# Altium schematic symbol library Amplifier_Operational.SchLib: 326 symbols (part 3 of 4)
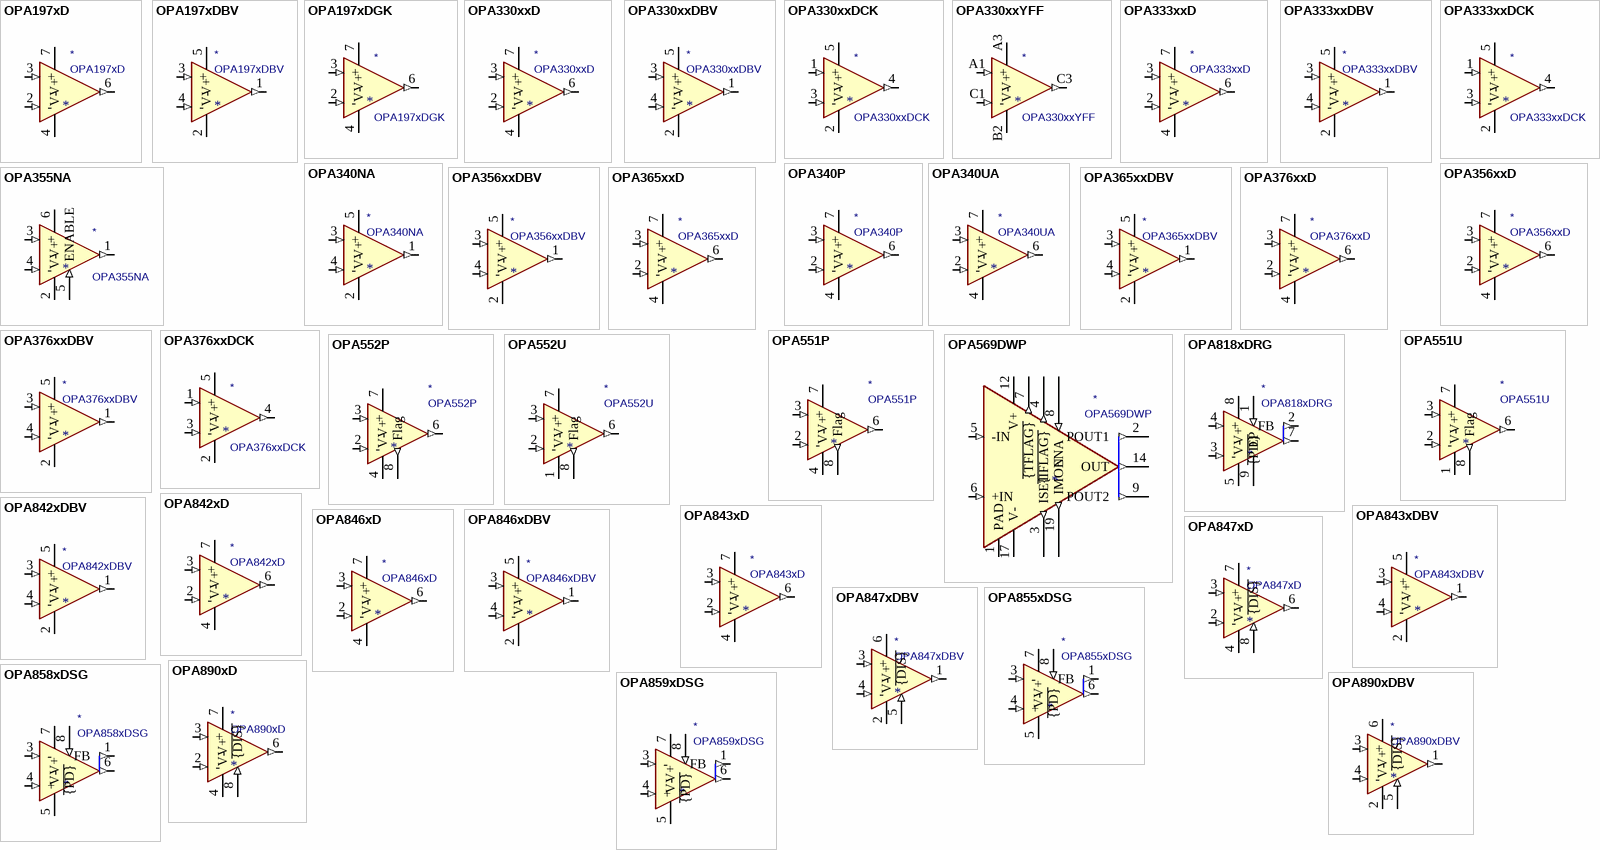
[diagram p20: symbols OPA197xD to OPA890xDBV]

## OPA333xxD
designator *  value OPA333xxD
ki_keywords: single opamp; ki_description: Single 1.8V, microPower, CMOS Operational Amplifiers, Zero-Drift Series, SOIC-8; ki_fp_filters: SOIC*3.9x4.9mm*P1.27mm*; Footprint: Package_SO:SOIC-8_3.9x4.9mm_P1.27mm; Supplier: http://www.ti.com/lit/ds/symlink/opa333.pdf
footprint SOIC-8_3.9x4.9mm_P1.27mm
pins: 1 NC (in) hidden, 2 - (in), 3 + (in), 4 V- (power), 5 NC (in) hidden, 6 (out), 7 V+ (power), 8 NC (in) hidden

## OPA333xxDBV
designator *  value OPA333xxDBV
ki_keywords: single opamp; ki_description: Single 1.8V, microPower, CMOS Operational Amplifiers, Zero-Drift Series, SOT-23-5; ki_fp_filters: SOT?23*; Footprint: Package_TO_SOT_SMD:SOT-23-5; Supplier: http://www.ti.com/lit/ds/symlink/opa333.pdf
footprint SOT-23-5
pins: 1 (out), 2 V- (power), 3 + (in), 4 - (in), 5 V+ (power)

## OPA333xxDCK
designator *  value OPA333xxDCK
ki_keywords: single opamp; ki_description: Single 1.8V, microPower, CMOS Operational Amplifiers, Zero-Drift Series, SC-70-5; ki_fp_filters: SOT?23* *SC*70*; Supplier: http://www.ti.com/lit/ds/symlink/opa333.pdf
pins: 1 + (in), 2 V- (power), 3 - (in), 4 (out), 5 V+ (power)

## OPA340NA
designator *  value OPA340NA
ki_keywords: single opamp; ki_description: Single Single-Supply, Rail-to-Rail Operational Amplifier, MicroAmplifier Series, SOT-23-5; ki_fp_filters: SOT?23*; Footprint: Package_TO_SOT_SMD:SOT-23-5; Supplier: http://www.ti.com/lit/ds/symlink/opa340.pdf
footprint SOT-23-5
pins: 1 (out), 2 V- (power), 3 + (in), 4 - (in), 5 V+ (power)

## OPA340P
designator *  value OPA340P
ki_keywords: single opamp; ki_description: Single Single-Supply, Rail-to-Rail Operational Amplifier, MicroAmplifier Series, DIP-8; ki_fp_filters: DIP*W7.62mm*; Footprint: Package_DIP:DIP-8_W7.62mm; Supplier: http://www.ti.com/lit/ds/symlink/opa340.pdf
footprint DIP-8_W7.62mm
pins: 1 NC (in) hidden, 2 - (in), 3 + (in), 4 V- (power), 5 NC (in) hidden, 6 (out), 7 V+ (power), 8 NC (in) hidden

## OPA340UA
designator *  value OPA340UA
ki_keywords: single opamp; ki_description: Single Single-Supply, Rail-to-Rail Operational Amplifier, MicroAmplifier Series, SOIC-8; ki_fp_filters: SOIC*3.9x4.9mm*P1.27mm*; Footprint: Package_SO:SOIC-8_3.9x4.9mm_P1.27mm; Supplier: http://www.ti.com/lit/ds/symlink/opa340.pdf
footprint SOIC-8_3.9x4.9mm_P1.27mm
pins: 1 NC (in) hidden, 2 - (in), 3 + (in), 4 V- (power), 5 NC (in) hidden, 6 (out), 7 V+ (power), 8 NC (in) hidden

## OPA355NA
designator *  value OPA355NA
ki_keywords: operational amplifier opamp shutdown high-speed; ki_description: 200MHz, CMOS, Operational amplifier, with shutdown, SOT-23-6; ki_fp_filters: SOT?23*; Footprint: Package_TO_SOT_SMD:SOT-23-6; Supplier: http://www.ti.com/lit/ds/symlink/opa355.pdf
footprint SOT-23-6
pins: 1 (out), 2 V- (power), 3 + (in), 4 - (in), 5 ENABLE (in), 6 V+ (power)

## OPA356xxD
designator *  value OPA356xxD
ki_keywords: single opamp; ki_description: Single High Speed CMOS Operational Amplifier, SOIC-8; ki_fp_filters: SOIC*3.9x4.9mm*P1.27mm*; Footprint: Package_SO:SOIC-8_3.9x4.9mm_P1.27mm; Supplier: http://www.ti.com/lit/ds/symlink/opa356.pdf
footprint SOIC-8_3.9x4.9mm_P1.27mm
pins: 1 NC (in) hidden, 2 - (in), 3 + (in), 4 V- (power), 5 NC (in) hidden, 6 (out), 7 V+ (power), 8 NC (in) hidden

## OPA356xxDBV
designator *  value OPA356xxDBV
ki_keywords: single opamp; ki_description: Single High Speed CMOS Operational Amplifier, SOT-23-5; ki_fp_filters: SOT?23*; Footprint: Package_TO_SOT_SMD:SOT-23-5; Supplier: http://www.ti.com/lit/ds/symlink/opa356.pdf
footprint SOT-23-5
pins: 1 (out), 2 V- (power), 3 + (in), 4 - (in), 5 V+ (power)

## OPA365xxD
designator *  value OPA365xxD
ki_keywords: single opamp; ki_description: 50-MHz, Zero-Crossover, Low-Distortion, High CMRR, RRI/O, Single-Supply, SOIC-8; ki_fp_filters: SOIC*3.9x4.9mm*P1.27mm*; Footprint: Package_SO:SOIC-8_3.9x4.9mm_P1.27mm; Supplier: http://www.ti.com/lit/ds/symlink/opa365.pdf
footprint SOIC-8_3.9x4.9mm_P1.27mm
pins: 1 NC (in) hidden, 2 - (in), 3 + (in), 4 V- (power), 5 NC (in) hidden, 6 (out), 7 V+ (power), 8 NC (in) hidden

## OPA365xxDBV
designator *  value OPA365xxDBV
ki_keywords: single opamp; ki_description: 50-MHz, Zero-Crossover, Low-Distortion, High CMRR, RRI/O, Single-Supply, SOT-23-5; ki_fp_filters: SOT?23*; Footprint: Package_TO_SOT_SMD:SOT-23-5; Supplier: https://www.ti.com/lit/ds/symlink/opa365.pdf
footprint SOT-23-5
pins: 1 (out), 2 V- (power), 3 + (in), 4 - (in), 5 V+ (power)

## OPA376xxD
designator *  value OPA376xxD
ki_keywords: single opamp; ki_description: Single Low-Noise, Low Quiescent Current, Precision Operational Amplifier e-trim Series, SOIC-8; ki_fp_filters: SOIC*3.9x4.9mm*P1.27mm*; Footprint: Package_SO:SOIC-8_3.9x4.9mm_P1.27mm; Supplier: http://www.ti.com/lit/ds/symlink/opa376.pdf
footprint SOIC-8_3.9x4.9mm_P1.27mm
pins: 1 NC (in) hidden, 2 - (in), 3 + (in), 4 V- (power), 5 NC (in) hidden, 6 (out), 7 V+ (power), 8 NC (in) hidden

## OPA376xxDBV
designator *  value OPA376xxDBV
ki_keywords: single opamp; ki_description: Single Low-Noise, Low Quiescent Current, Precision Operational Amplifier e-trim Series, SOT-23-5; ki_fp_filters: SOT?23*; Footprint: Package_TO_SOT_SMD:SOT-23-5; Supplier: http://www.ti.com/lit/ds/symlink/opa376.pdf
footprint SOT-23-5
pins: 1 (out), 2 V- (power), 3 + (in), 4 - (in), 5 V+ (power)

## OPA376xxDCK
designator *  value OPA376xxDCK
ki_keywords: single opamp; ki_description: Single Low-Noise, Low Quiescent Current, Precision Operational Amplifier e-trim Series, SC-70-5; ki_fp_filters: SOT?23* *SC*70*; Supplier: http://www.ti.com/lit/ds/symlink/opa376.pdf
pins: 1 + (in), 2 V- (power), 3 - (in), 4 (out), 5 V+ (power)

## OPA551P
designator *  value OPA551P
ki_keywords: single opamp; ki_description: High-Voltage High-Current Operational Amplifier, bandwidth 3MHz, slew-rate 15V/us, DIP-8; ki_fp_filters: DIP*W7.62mm*; Footprint: Package_DIP:DIP-8_W7.62mm; Supplier: http://www.ti.com/lit/ds/symlink/opa551.pdf
footprint DIP-8_W7.62mm
pins: 1 NC (in) hidden, 2 - (in), 3 + (in), 4 V- (power), 5 NC (in) hidden, 6 (out), 7 V+ (power), 8 Flag (out)

## OPA551U
designator *  value OPA551U
ki_keywords: single opamp; ki_description: High-Voltage High-Current Operational Amplifier, bandwidth 3MHz, slew-rate 15V/us, SOIC-8; ki_fp_filters: SOIC*3.9x4.9mm*P1.27mm*; Footprint: Package_SO:SOIC-8_3.9x4.9mm_P1.27mm; Supplier: http://www.ti.com/lit/ds/symlink/opa551.pdf
footprint SOIC-8_3.9x4.9mm_P1.27mm
pins: 1 V- (power), 2 - (in), 3 + (in), 4 V- (power) hidden, 5 V- (power) hidden, 6 (out), 7 V+ (power), 8 Flag (out)

## OPA552P
designator *  value OPA552P
ki_keywords: single opamp; ki_description: High-Voltage High-Current Operational Amplifier, bandwidth 12MHz, slew-rate 24V/us, DIP-8; ki_fp_filters: DIP*W7.62mm*; Footprint: Package_DIP:DIP-8_W7.62mm; Supplier: http://www.ti.com/lit/ds/symlink/opa552.pdf
footprint DIP-8_W7.62mm
pins: 1 NC (in) hidden, 2 - (in), 3 + (in), 4 V- (power), 5 NC (in) hidden, 6 (out), 7 V+ (power), 8 Flag (out)

## OPA552U
designator *  value OPA552U
ki_keywords: single opamp; ki_description: High-Voltage High-Current Operational Amplifier, bandwidth 12MHz, slew-rate 24V/us, SOIC-8; ki_fp_filters: SOIC*3.9x4.9mm*P1.27mm*; Footprint: Package_SO:SOIC-8_3.9x4.9mm_P1.27mm; Supplier: http://www.ti.com/lit/ds/symlink/opa552.pdf
footprint SOIC-8_3.9x4.9mm_P1.27mm
pins: 1 V- (power), 2 - (in), 3 + (in), 4 V- (power) hidden, 5 V- (power) hidden, 6 (out), 7 V+ (power), 8 Flag (out)

## OPA569DWP
designator *  value OPA569DWP
ki_keywords: opamp single high current; ki_description: Rail-to-Rail I/O, 2A, Power Amplifier, SO-20; ki_fp_filters: SO*1EP*7.52x12.825mm*P1.27mm*; Footprint: Package_SO:SO-20-1EP_7.52x12.825mm_P1.27mm_EP6.045x12.09mm_Mask3.56x4.47mm; Supplier: http://www.ti.com/lit/ds/symlink/opa569.pdf
footprint SO-20-1EP_7.52x12.825mm_P1.27mm_EP6.045x12.09mm_Mask3.56x4.47mm
pins: 1 PAD (power), 2 POUT1 (out), 3 ISET (out), 4 ~{{IFLAG}} (out), 5 -IN (in), 6 +IN (in), 7 ~{{TFLAG}} (out), 8 ENA (in), 9 POUT2 (out), 10 PAD hidden, 11 PAD hidden, 12 V+ (power), 13 V+ hidden, 14 OUT (out), 15 OUT hidden, 16 NC (in) hidden, 17 V- (power), 18 V- hidden, 19 IMON (out), 20 PAD hidden, 21 PAD hidden

## OPA818xDRG
designator *  value OPA818xDRG
ki_keywords: opamp VFA; ki_description: 2.7 GHz, High-Voltage, FET-Input, Low Noise, Operational Amplifier, WSON-8; ki_fp_filters: WSON*1EP*3x3mm*EP1.45x2.4mm*; Footprint: Package_SON:WSON-8-1EP_3x3mm_P0.5mm_EP1.45x2.4mm; Supplier: https://www.ti.com/lit/ds/symlink/opa818.pdf
footprint WSON-8-1EP_3x3mm_P0.5mm_EP1.45x2.4mm
pins: 1 ~{{PD}} (in), 2 FB (out), 3 - (in), 4 + (in), 5 V- (power), 6 NC (in) hidden, 7 (out), 8 V+ (power), 9 EP

## OPA842xD
designator *  value OPA842xD
ki_keywords: single opamp; ki_description: 200MHz, Low Distortion, Unity-Gain Stable, Voltage Feedback Operational Amplifier, SOIC-8; ki_fp_filters: SOIC*3.9x4.9mm*P1.27mm*; Footprint: Package_SO:SOIC-8_3.9x4.9mm_P1.27mm; Supplier: http://www.ti.com/lit/ds/symlink/opa842.pdf
footprint SOIC-8_3.9x4.9mm_P1.27mm
pins: 1 NC (in) hidden, 2 - (in), 3 + (in), 4 V- (power), 5 NC (in) hidden, 6 (out), 7 V+ (power), 8 NC (in) hidden

## OPA842xDBV
designator *  value OPA842xDBV
ki_keywords: single opamp; ki_description: 200MHz, Low Distortion, Unity-Gain Stable, Voltage Feedback Operational Amplifier, SOT23-5; ki_fp_filters: SOT?23*; Footprint: Package_TO_SOT_SMD:SOT-23-5; Supplier: http://www.ti.com/lit/ds/symlink/opa842.pdf
footprint SOT-23-5
pins: 1 (out), 2 V- (power), 3 + (in), 4 - (in), 5 V+ (power)

## OPA843xD
designator *  value OPA843xD
ki_keywords: single opamp low distortion; ki_description: 800MHz, Wideband, Low Distortion, Medium Gain, Voltage-Feedback Operational Amplifier, SOIC-8; ki_fp_filters: SOIC*3.9x4.9mm*P1.27mm*; Footprint: Package_SO:SOIC-8_3.9x4.9mm_P1.27mm; Supplier: http://www.ti.com/lit/ds/symlink/opa843.pdf
footprint SOIC-8_3.9x4.9mm_P1.27mm
pins: 1 NC (in) hidden, 2 - (in), 3 + (in), 4 V- (power), 5 NC (in) hidden, 6 (out), 7 V+ (power), 8 NC (in) hidden

## OPA843xDBV
designator *  value OPA843xDBV
ki_keywords: single opamp low distortion; ki_description: 800MHz, Wideband, Low Distortion, Medium Gain, Voltage-Feedback Operational Amplifier, SOT-23-5; ki_fp_filters: SOT?23*; Footprint: Package_TO_SOT_SMD:SOT-23-5; Supplier: http://www.ti.com/lit/ds/symlink/opa843.pdf
footprint SOT-23-5
pins: 1 (out), 2 V- (power), 3 + (in), 4 - (in), 5 V+ (power)

## OPA846xD
designator *  value OPA846xD
ki_keywords: single opamp; ki_description: 1750MHz, Wideband, Low-Noise, Voltage Feedback Operational Amplifier, SOIC-8; ki_fp_filters: SOIC*3.9x4.9mm*P1.27mm*; Footprint: Package_SO:SOIC-8_3.9x4.9mm_P1.27mm; Supplier: http://www.ti.com/lit/ds/symlink/opa846.pdf
footprint SOIC-8_3.9x4.9mm_P1.27mm
pins: 1 NC (in) hidden, 2 - (in), 3 + (in), 4 V- (power), 5 NC (in) hidden, 6 (out), 7 V+ (power), 8 NC (in) hidden

## OPA846xDBV
designator *  value OPA846xDBV
ki_keywords: single opamp; ki_description: 1750MHz, Wideband, Low-Noise, Voltage Feedback Operational Amplifier, SOT23-5; ki_fp_filters: SOT?23*; Footprint: Package_TO_SOT_SMD:SOT-23-5; Supplier: http://www.ti.com/lit/ds/symlink/opa846.pdf
footprint SOT-23-5
pins: 1 (out), 2 V- (power), 3 + (in), 4 - (in), 5 V+ (power)

## OPA847xD
designator *  value OPA847xD
ki_keywords: single opamp wideband low-power; ki_description: Single Low-Power, 3.9GHz, Wideband, Ultra-Low Noise, Voltage-Feedback Operational Amplifier with Disable, SO-8; ki_fp_filters: SOIC*3.9x4.9mm*P1.27mm*; Footprint: Package_SO:SOIC-8_3.9x4.9mm_P1.27mm; Supplier: http://www.ti.com/lit/ds/symlink/opa847.pdf
footprint SOIC-8_3.9x4.9mm_P1.27mm
pins: 1 NC (in) hidden, 2 - (in), 3 + (in), 4 V- (power), 5 NC (in) hidden, 6 (out), 7 V+ (power), 8 ~{{DIS}} (in)

## OPA847xDBV
designator *  value OPA847xDBV
ki_keywords: single opamp wideband low-power; ki_description: Single Low-Power, 3.9GHz, Wideband, Ultra-Low Noise, Voltage-Feedback Operational Amplifier with Disable, SOT-23-6; ki_fp_filters: SOT?23*; Footprint: Package_TO_SOT_SMD:SOT-23-6; Supplier: http://www.ti.com/lit/ds/symlink/opa847.pdf
footprint SOT-23-6
pins: 1 (out), 2 V- (power), 3 + (in), 4 - (in), 5 ~{{DIS}} (in), 6 V+ (power)

## OPA855xDSG
designator *  value OPA855xDSG
ki_keywords: opamp VFA; ki_description: 8-GHz Gain Bandwidth Product, Gain of 7-V/V Stable, Bipolar Input Amplifier, WSON-8; ki_fp_filters: WSON*1EP*2x2mm*P0.5mm*; Footprint: Package_SON:WSON-8-1EP_2x2mm_P0.5mm_EP0.9x1.6mm; Supplier: http://www.ti.com/lit/ds/symlink/opa855.pdf
footprint WSON-8-1EP_2x2mm_P0.5mm_EP0.9x1.6mm
pins: 1 FB (out), 2 NC (in) hidden, 3 - (in), 4 + (in), 5 V- (power), 6 (out), 7 V+ (power), 8 ~{{PD}} (in), 9 V- hidden

## OPA858xDSG
designator *  value OPA858xDSG
ki_keywords: opamp VFA; ki_description: 5.5-GHz Gain Bandwidth Product, Gain of 7 V/V Stable, FET Input Amplifier, WSON-8; ki_fp_filters: WSON*1EP*2x2mm*P0.5mm*; Footprint: Package_SON:WSON-8-1EP_2x2mm_P0.5mm_EP0.9x1.6mm; Supplier: http://www.ti.com/lit/ds/symlink/opa858.pdf
footprint WSON-8-1EP_2x2mm_P0.5mm_EP0.9x1.6mm
pins: 1 FB (out), 2 NC (in) hidden, 3 - (in), 4 + (in), 5 V- (power), 6 (out), 7 V+ (power), 8 ~{{PD}} (in), 9 V- hidden

## OPA859xDSG
designator *  value OPA859xDSG
ki_keywords: opamp VFA; ki_description: 1.8 GHz Unity-Gain Bandwidth FET Input Amplifier, WSON-8; ki_fp_filters: WSON*1EP*2x2mm*P0.5mm*; Footprint: Package_SON:WSON-8-1EP_2x2mm_P0.5mm_EP0.9x1.6mm; Supplier: http://www.ti.com/lit/ds/symlink/opa859.pdf
footprint WSON-8-1EP_2x2mm_P0.5mm_EP0.9x1.6mm
pins: 1 FB (out), 2 NC (in) hidden, 3 - (in), 4 + (in), 5 V- (power), 6 (out), 7 V+ (power), 8 ~{{PD}} (in), 9 V- hidden

## OPA890xD
designator *  value OPA890xD
ki_keywords: single opamp wideband low-power; ki_description: Single Low-Power, Wideband, Voltage-Feedback Operational Amplifier with Disable, SO-8; ki_fp_filters: SOIC*3.9x4.9mm*P1.27mm*; Footprint: Package_SO:SOIC-8_3.9x4.9mm_P1.27mm; Supplier: https://www.ti.com/lit/ds/symlink/opa890.pdf
footprint SOIC-8_3.9x4.9mm_P1.27mm
pins: 1 NC (in) hidden, 2 - (in), 3 + (in), 4 V- (power), 5 NC (in) hidden, 6 (out), 7 V+ (power), 8 ~{{DIS}} (in)

## OPA890xDBV
designator *  value OPA890xDBV
ki_keywords: single opamp wideband low-power; ki_description: Single Low-Power, Wideband, Voltage-Feedback Operational Amplifier with Disable, SOT-23-6; ki_fp_filters: SOT?23*; Footprint: Package_TO_SOT_SMD:SOT-23-6; Supplier: https://www.ti.com/lit/ds/symlink/opa890.pdf
footprint SOT-23-6
pins: 1 (out), 2 V- (power), 3 + (in), 4 - (in), 5 ~{{DIS}} (in), 6 V+ (power)

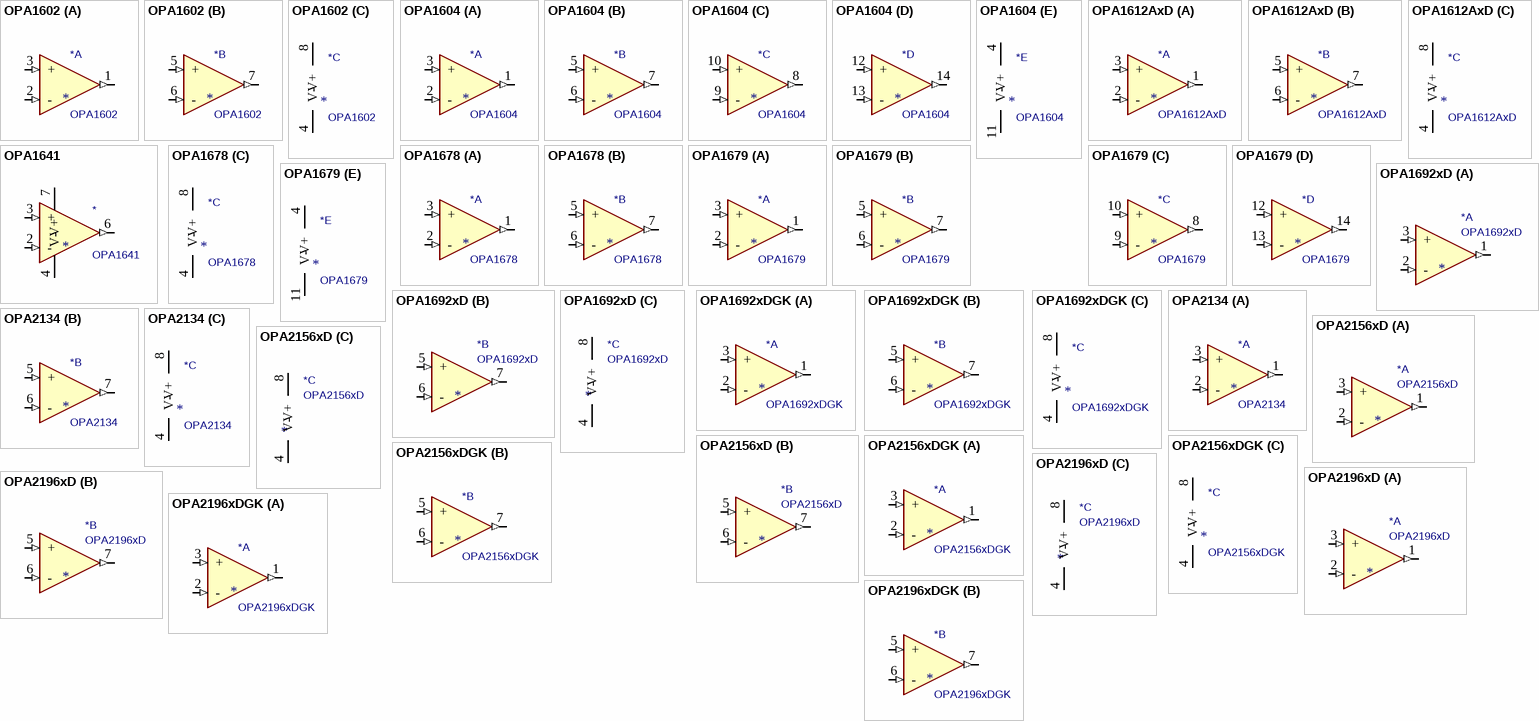
[diagram p12: symbols OPA1602 to OPA2196xDGK]

## OPA1602
designator *  value OPA1602
ki_keywords: dual opamp; ki_description: Dual SoundPlus High Performance, Bipolar-Input Audio Operational Amplifiers, SOIC-8/MSOP-8; ki_fp_filters: SOIC*3.9x4.9mm*P1.27mm* DIP*W7.62mm* TO*99* OnSemi*Micro8* TSSOP*3x3mm*P0.65mm* TSSOP*4.4x3mm*P0.65mm* MSOP*3x3mm*P0.65mm* SSOP*3.9x4.9mm*P0.635mm* LFCSP*2x2mm*P0.5mm* *SIP* SOIC*5.3x6.2mm*P1.27mm*; Supplier: http://www.ti.com/lit/ds/symlink/opa1604.pdf
part A pins: 1 (out), 2 - (in), 3 + (in)
part B pins: 5 + (in), 6 - (in), 7 (out)
part C pins: 4 V- (power), 8 V+ (power)

## OPA1604
designator *  value OPA1604
ki_keywords: quad opamp; ki_description: Quad SoundPlus High Performance, Bipolar-Input Audio Operational Amplifiers, SOIC-14/TSSOP-14; ki_fp_filters: SOIC*3.9x8.7mm*P1.27mm* DIP*W7.62mm* TSSOP*4.4x5mm*P0.65mm* SSOP*5.3x6.2mm*P0.65mm* MSOP*3x3mm*P0.5mm*; Supplier: http://www.ti.com/lit/ds/symlink/opa1604.pdf
part A pins: 1 (out), 2 - (in), 3 + (in)
part B pins: 5 + (in), 6 - (in), 7 (out)
part C pins: 8 (out), 9 - (in), 10 + (in)
part D pins: 12 + (in), 13 - (in), 14 (out)
part E pins: 4 V+ (power), 11 V- (power)

## OPA1612AxD
designator *  value OPA1612AxD
ki_keywords: dual opamp; ki_description: Dual SoundPlus High Performance, Bipolar-Input Audio Operational Amplifiers, SOIC-8; ki_fp_filters: SOIC*3.9x4.9mm*P1.27mm* DIP*W7.62mm* TO*99* OnSemi*Micro8* TSSOP*3x3mm*P0.65mm* TSSOP*4.4x3mm*P0.65mm* MSOP*3x3mm*P0.65mm* SSOP*3.9x4.9mm*P0.635mm* LFCSP*2x2mm*P0.5mm* *SIP* SOIC*5.3x6.2mm*P1.27mm*; Supplier: http://www.ti.com/lit/ds/symlink/opa1612.pdf
part A pins: 1 (out), 2 - (in), 3 + (in)
part B pins: 5 + (in), 6 - (in), 7 (out)
part C pins: 4 V- (power), 8 V+ (power)

## OPA1641
designator *  value OPA1641
ki_keywords: single opamp; ki_description: JFET input, ultralow distortion, low-noise operational amplifier, SOIC-8/VSSOP-8; ki_fp_filters: SOIC*3.9x4.9mm*P1.27mm* VSSOP*3.0x3.0mm*P0.65mm*; Supplier: http://www.ti.com/lit/ds/symlink/opa1641.pdf
pins: 1 NC (in) hidden, 2 - (in), 3 + (in), 4 V- (power), 5 NC (in) hidden, 6 (out), 7 V+ (power), 8 NC (in) hidden

## OPA1678
designator *  value OPA1678
ki_keywords: dual opamp; ki_description: Low-Distortion Audio Operational Amplifiers, SOIC-8/VSSOP-8; ki_fp_filters: SOIC*3.9x4.9mm*P1.27mm* DIP*W7.62mm* TO*99* OnSemi*Micro8* TSSOP*3x3mm*P0.65mm* TSSOP*4.4x3mm*P0.65mm* MSOP*3x3mm*P0.65mm* SSOP*3.9x4.9mm*P0.635mm* LFCSP*2x2mm*P0.5mm* *SIP* SOIC*5.3x6.2mm*P1.27mm*; Supplier: http://www.ti.com/lit/ds/symlink/opa1678.pdf
part A pins: 1 (out), 2 - (in), 3 + (in)
part B pins: 5 + (in), 6 - (in), 7 (out)
part C pins: 4 V- (power), 8 V+ (power)

## OPA1679
designator *  value OPA1679
ki_keywords: quad opamp; ki_description: Low-Distortion Audio Operational Amplifiers, SOIC-14/TSSOP-14; ki_fp_filters: SOIC*3.9x8.7mm*P1.27mm* DIP*W7.62mm* TSSOP*4.4x5mm*P0.65mm* SSOP*5.3x6.2mm*P0.65mm* MSOP*3x3mm*P0.5mm*; Supplier: http://www.ti.com/lit/ds/symlink/opa1678.pdf
part A pins: 1 (out), 2 - (in), 3 + (in)
part B pins: 5 + (in), 6 - (in), 7 (out)
part C pins: 8 (out), 9 - (in), 10 + (in)
part D pins: 12 + (in), 13 - (in), 14 (out)
part E pins: 4 V+ (power), 11 V- (power)

## OPA1692xD
designator *  value OPA1692xD
ki_keywords: VFA opamp; ki_description: Dual SoundPlus Low Power, Low Noise & Low Distortion Audio Operational Amplifiers, SOIC-8; ki_fp_filters: SOIC*3.9x4.9mm*P1.27mm*; Footprint: Package_SO:SOIC-8_3.9x4.9mm_P1.27mm; Supplier: https://www.ti.com/lit/ds/symlink/opa1692.pdf
footprint SOIC-8_3.9x4.9mm_P1.27mm
part A pins: 1 (out), 2 - (in), 3 + (in)
part B pins: 5 + (in), 6 - (in), 7 (out)
part C pins: 4 V- (power), 8 V+ (power)

## OPA1692xDGK
designator *  value OPA1692xDGK
ki_keywords: VFA opamp; ki_description: Dual SoundPlus Low Power, Low Noise & Low Distortion Audio Operational Amplifiers, VSSOP-8; ki_fp_filters: VSSOP*3.0x3.0mm*P0.65mm*; Footprint: Package_SO:VSSOP-8_3.0x3.0mm_P0.65mm; Supplier: https://www.ti.com/lit/ds/symlink/opa1692.pdf
footprint VSSOP-8_3.0x3.0mm_P0.65mm
part A pins: 1 (out), 2 - (in), 3 + (in)
part B pins: 5 + (in), 6 - (in), 7 (out)
part C pins: 4 V- (power), 8 V+ (power)

## OPA2134
designator *  value OPA2134
ki_keywords: dual opamp; ki_description: Dual SoundPlus High Performance Audio Operational Amplifiers, DIP-8/SOIC-8; ki_fp_filters: SOIC*3.9x4.9mm*P1.27mm* DIP*W7.62mm* TO*99* OnSemi*Micro8* TSSOP*3x3mm*P0.65mm* TSSOP*4.4x3mm*P0.65mm* MSOP*3x3mm*P0.65mm* SSOP*3.9x4.9mm*P0.635mm* LFCSP*2x2mm*P0.5mm* *SIP* SOIC*5.3x6.2mm*P1.27mm*; Supplier: http://www.ti.com/lit/ds/symlink/opa134.pdf
part A pins: 1 (out), 2 - (in), 3 + (in)
part B pins: 5 + (in), 6 - (in), 7 (out)
part C pins: 4 V- (power), 8 V+ (power)

## OPA2156xD
designator *  value OPA2156xD
ki_keywords: dual opamp low-noise r2r; ki_description: Dual 36V, Ultra Low Noise, Rail-to-Rail Input/Output, Low Offset Voltage, Operational Amplifier, SOIC-8; ki_fp_filters: SOIC*3.9x4.9mm*P1.27mm*; Footprint: Package_SO:SOIC-8_3.9x4.9mm_P1.27mm; Supplier: https://www.ti.com/lit/ds/symlink/opa2156.pdf
footprint SOIC-8_3.9x4.9mm_P1.27mm
part A pins: 1 (out), 2 - (in), 3 + (in)
part B pins: 5 + (in), 6 - (in), 7 (out)
part C pins: 4 V- (power), 8 V+ (power)

## OPA2156xDGK
designator *  value OPA2156xDGK
ki_keywords: dual opamp low-noise r2r; ki_description: Dual 36V, Ultra Low Noise, Rail-to-Rail Input/Output, Low Offset Voltage, Operational Amplifier, VSSOP-8; ki_fp_filters: VSSOP*3.0x3.0mm*P0.65mm*; Footprint: Package_SO:VSSOP-8_3.0x3.0mm_P0.65mm; Supplier: http://www.ti.com/lit/ds/symlink/opa2156.pdf
footprint VSSOP-8_3.0x3.0mm_P0.65mm
part A pins: 1 (out), 2 - (in), 3 + (in)
part B pins: 5 + (in), 6 - (in), 7 (out)
part C pins: 4 V- (power), 8 V+ (power)

## OPA2196xD
designator *  value OPA2196xD
ki_keywords: dual opamp low-power; ki_description: Dual, Low-Power, Low Offset Voltage, Rail-to-Rail Operational Amplifier, SOIC-8; ki_fp_filters: SOIC*3.9x4.9mm*P1.27mm*; Footprint: Package_SO:SOIC-8_3.9x4.9mm_P1.27mm; Supplier: http://www.ti.com/lit/ds/symlink/opa4196.pdf
footprint SOIC-8_3.9x4.9mm_P1.27mm
part A pins: 1 (out), 2 - (in), 3 + (in)
part B pins: 5 + (in), 6 - (in), 7 (out)
part C pins: 4 V- (power), 8 V+ (power)

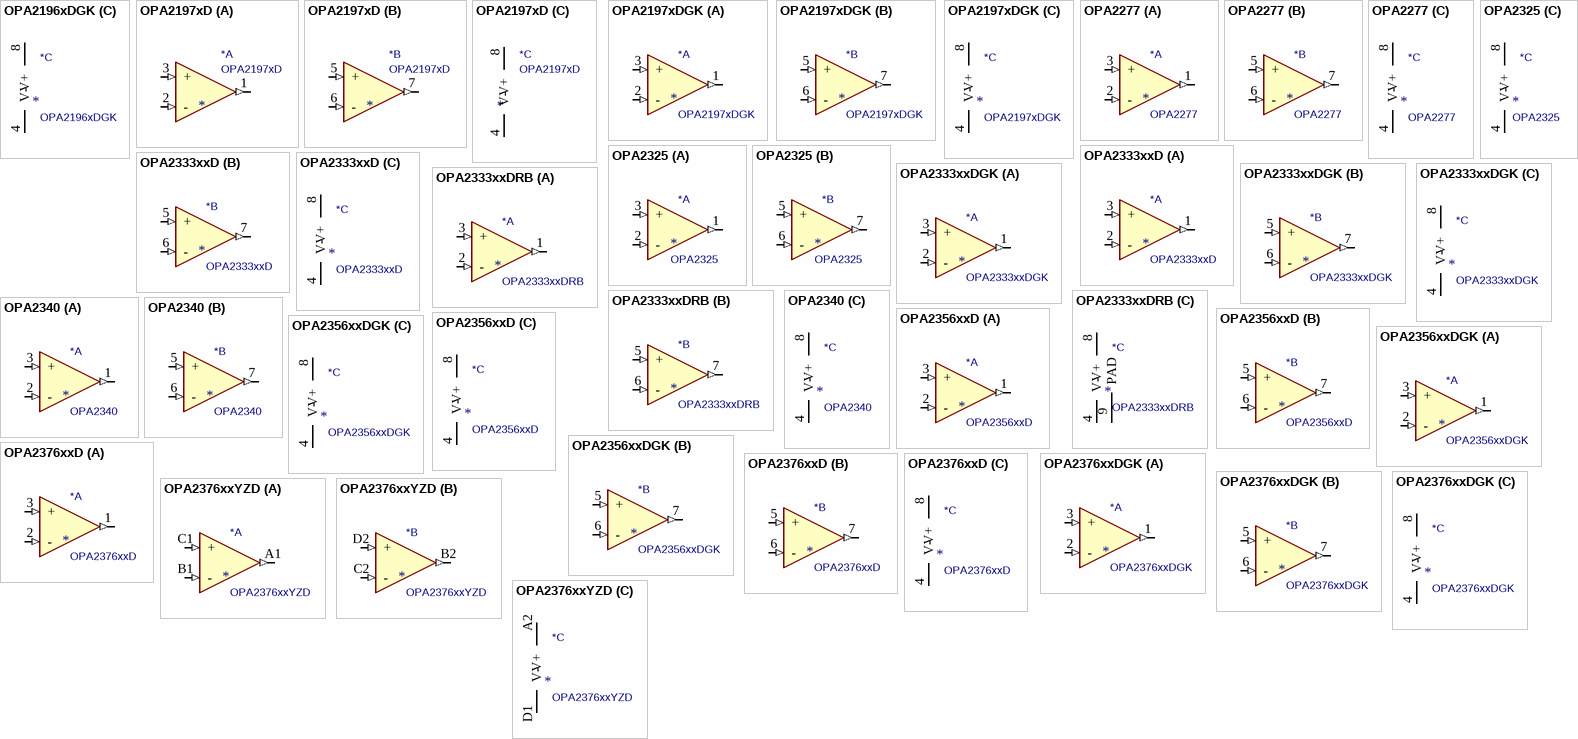
[diagram p13: symbols OPA2196xDGK to OPA2376xxYZD]

## OPA2196xDGK
designator *  value OPA2196xDGK
ki_keywords: dual opamp rtor; ki_description: Dual, Low-Power, Low Offset Voltage, Rail-to-Rail Operational Amplifier, VSSOP-8; ki_fp_filters: VSSOP*3.0x3.0mm*P0.65mm*; Footprint: Package_SO:VSSOP-8_3.0x3.0mm_P0.65mm; Supplier: http://www.ti.com/lit/ds/symlink/opa4196.pdf
footprint VSSOP-8_3.0x3.0mm_P0.65mm
part A pins: 1 (out), 2 - (in), 3 + (in)
part B pins: 5 + (in), 6 - (in), 7 (out)
part C pins: 4 V- (power), 8 V+ (power)

## OPA2197xD
designator *  value OPA2197xD
ki_keywords: dual opamp rtor; ki_description: Dual 36V, Precision, Rail-to-Rail Input/Output, Low Offset Voltage, Operational Amplifier, SOIC-8; ki_fp_filters: SOIC*3.9x4.9mm*P1.27mm*; Footprint: Package_SO:SOIC-8_3.9x4.9mm_P1.27mm; Supplier: http://www.ti.com/lit/ds/symlink/opa2197.pdf
footprint SOIC-8_3.9x4.9mm_P1.27mm
part A pins: 1 (out), 2 - (in), 3 + (in)
part B pins: 5 + (in), 6 - (in), 7 (out)
part C pins: 4 V- (power), 8 V+ (power)

## OPA2197xDGK
designator *  value OPA2197xDGK
ki_keywords: dual opamp rtor; ki_description: Dual 36V, Precision, Rail-to-Rail Input/Output, Low Offset Voltage, Operational Amplifier, VSSOP-8; ki_fp_filters: VSSOP*3.0x3.0mm*P0.65mm*; Footprint: Package_SO:VSSOP-8_3.0x3.0mm_P0.65mm; Supplier: http://www.ti.com/lit/ds/symlink/opa2197.pdf
footprint VSSOP-8_3.0x3.0mm_P0.65mm
part A pins: 1 (out), 2 - (in), 3 + (in)
part B pins: 5 + (in), 6 - (in), 7 (out)
part C pins: 4 V- (power), 8 V+ (power)

## OPA2277
designator *  value OPA2277
ki_keywords: dual opamp; ki_description: Dual High Precision Operational Amplifiers, DIP-8/SOIC-8; ki_fp_filters: SOIC*3.9x4.9mm*P1.27mm* DIP*W7.62mm* TO*99* OnSemi*Micro8* TSSOP*3x3mm*P0.65mm* TSSOP*4.4x3mm*P0.65mm* MSOP*3x3mm*P0.65mm* SSOP*3.9x4.9mm*P0.635mm* LFCSP*2x2mm*P0.5mm* *SIP* SOIC*5.3x6.2mm*P1.27mm*; Supplier: https://www.ti.com/lit/ds/symlink/opa2277.pdf
part A pins: 1 (out), 2 - (in), 3 + (in)
part B pins: 5 + (in), 6 - (in), 7 (out)
part C pins: 4 V- (power), 8 V+ (power)

## OPA2325
designator *  value OPA2325
ki_keywords: dual opamp; ki_description: Precision, 10-MHz, Low-Noise, Low-Power, RRIO, CMOS Operational Amplifier, SOIC-8; ki_fp_filters: SOIC*3.9x4.9mm*P1.27mm*; Footprint: Package_SO:SOIC-8_3.9x4.9mm_P1.27mm; Supplier: http://www.ti.com/lit/ds/symlink/opa2325.pdf
footprint SOIC-8_3.9x4.9mm_P1.27mm
part A pins: 1 (out), 2 - (in), 3 + (in)
part B pins: 5 + (in), 6 - (in), 7 (out)
part C pins: 4 V- (power), 8 V+ (power)

## OPA2333xxD
designator *  value OPA2333xxD
ki_keywords: dual opamp; ki_description: Dual 1.8V, microPower, CMOS Operational Amplifiers, Zero-Drift Series, SOIC-8; ki_fp_filters: SOIC*3.9x4.9mm*P1.27mm* DIP*W7.62mm* TO*99* OnSemi*Micro8* TSSOP*3x3mm*P0.65mm* TSSOP*4.4x3mm*P0.65mm* MSOP*3x3mm*P0.65mm* SSOP*3.9x4.9mm*P0.635mm* LFCSP*2x2mm*P0.5mm* *SIP* SOIC*5.3x6.2mm*P1.27mm*; Supplier: http://www.ti.com/lit/ds/symlink/opa333.pdf
part A pins: 1 (out), 2 - (in), 3 + (in)
part B pins: 5 + (in), 6 - (in), 7 (out)
part C pins: 4 V- (power), 8 V+ (power)

## OPA2333xxDGK
designator *  value OPA2333xxDGK
ki_keywords: dual opamp; ki_description: Dual 1.8V, microPower, CMOS Operational Amplifiers, Zero-Drift Series, VSSOP-8; ki_fp_filters: SOIC*3.9x4.9mm*P1.27mm* DIP*W7.62mm* TO*99* OnSemi*Micro8* TSSOP*3x3mm*P0.65mm* TSSOP*4.4x3mm*P0.65mm* MSOP*3x3mm*P0.65mm* SSOP*3.9x4.9mm*P0.635mm* LFCSP*2x2mm*P0.5mm* *SIP* SOIC*5.3x6.2mm*P1.27mm*; Supplier: http://www.ti.com/lit/ds/symlink/opa333.pdf
part A pins: 1 (out), 2 - (in), 3 + (in)
part B pins: 5 + (in), 6 - (in), 7 (out)
part C pins: 4 V- (power), 8 V+ (power)

## OPA2333xxDRB
designator *  value OPA2333xxDRB
ki_keywords: dual opamp; ki_description: Dual 1.8V, microPower, CMOS Operational Amplifiers, Zero-Drift Series, SON-8; ki_fp_filters: Texas*PVSON*; Footprint: Package_SON:Texas_S-PVSON-N8; Supplier: http://www.ti.com/lit/ds/symlink/opa333.pdf
footprint Texas_S-PVSON-N8
part A pins: 1 (out), 2 - (in), 3 + (in)
part B pins: 5 + (in), 6 - (in), 7 (out)
part C pins: 4 V- (power), 8 V+ (power), 9 PAD (power)

## OPA2340
designator *  value OPA2340
ki_keywords: dual opamp; ki_description: Dual Single-Supply, Rail-to-Rail Operational Amplifiers, MicroAmplifier Series, DIP-8/SOIC-8/SSOP-8; ki_fp_filters: SOIC*3.9x4.9mm*P1.27mm* DIP*W7.62mm* TO*99* OnSemi*Micro8* TSSOP*3x3mm*P0.65mm* TSSOP*4.4x3mm*P0.65mm* MSOP*3x3mm*P0.65mm* SSOP*3.9x4.9mm*P0.635mm* LFCSP*2x2mm*P0.5mm* *SIP* SOIC*5.3x6.2mm*P1.27mm*; Supplier: http://www.ti.com/lit/ds/symlink/opa4340.pdf
part A pins: 1 (out), 2 - (in), 3 + (in)
part B pins: 5 + (in), 6 - (in), 7 (out)
part C pins: 4 V- (power), 8 V+ (power)

## OPA2356xxD
designator *  value OPA2356xxD
ki_keywords: dual opamp; ki_description: Dual High Speed CMOS Operational Amplifiers, SOIC-8; ki_fp_filters: SOIC*3.9x4.9mm*P1.27mm* DIP*W7.62mm* TO*99* OnSemi*Micro8* TSSOP*3x3mm*P0.65mm* TSSOP*4.4x3mm*P0.65mm* MSOP*3x3mm*P0.65mm* SSOP*3.9x4.9mm*P0.635mm* LFCSP*2x2mm*P0.5mm* *SIP* SOIC*5.3x6.2mm*P1.27mm*; Supplier: http://www.ti.com/lit/ds/symlink/opa2356.pdf
part A pins: 1 (out), 2 - (in), 3 + (in)
part B pins: 5 + (in), 6 - (in), 7 (out)
part C pins: 4 V- (power), 8 V+ (power)

## OPA2356xxDGK
designator *  value OPA2356xxDGK
ki_keywords: dual opamp; ki_description: Dual High Speed CMOS Operational Amplifiers, VSSOP-8; ki_fp_filters: SOIC*3.9x4.9mm*P1.27mm* DIP*W7.62mm* TO*99* OnSemi*Micro8* TSSOP*3x3mm*P0.65mm* TSSOP*4.4x3mm*P0.65mm* MSOP*3x3mm*P0.65mm* SSOP*3.9x4.9mm*P0.635mm* LFCSP*2x2mm*P0.5mm* *SIP* SOIC*5.3x6.2mm*P1.27mm*; Supplier: http://www.ti.com/lit/ds/symlink/opa2356.pdf
part A pins: 1 (out), 2 - (in), 3 + (in)
part B pins: 5 + (in), 6 - (in), 7 (out)
part C pins: 4 V- (power), 8 V+ (power)

## OPA2376xxD
designator *  value OPA2376xxD
ki_keywords: dual opamp; ki_description: Dual Low-Noise, Low Quiescent Current, Precision Operational Amplifier e-trim Series, SOIC-8; ki_fp_filters: SOIC*3.9x4.9mm*P1.27mm* DIP*W7.62mm* TO*99* OnSemi*Micro8* TSSOP*3x3mm*P0.65mm* TSSOP*4.4x3mm*P0.65mm* MSOP*3x3mm*P0.65mm* SSOP*3.9x4.9mm*P0.635mm* LFCSP*2x2mm*P0.5mm* *SIP* SOIC*5.3x6.2mm*P1.27mm*; Supplier: http://www.ti.com/lit/ds/symlink/opa376.pdf
part A pins: 1 (out), 2 - (in), 3 + (in)
part B pins: 5 + (in), 6 - (in), 7 (out)
part C pins: 4 V- (power), 8 V+ (power)

## OPA2376xxDGK
designator *  value OPA2376xxDGK
ki_keywords: dual opamp; ki_description: Dual Low-Noise, Low Quiescent Current, Precision Operational Amplifier e-trim Series, VSSOP-8; ki_fp_filters: SOIC*3.9x4.9mm*P1.27mm* DIP*W7.62mm* TO*99* OnSemi*Micro8* TSSOP*3x3mm*P0.65mm* TSSOP*4.4x3mm*P0.65mm* MSOP*3x3mm*P0.65mm* SSOP*3.9x4.9mm*P0.635mm* LFCSP*2x2mm*P0.5mm* *SIP* SOIC*5.3x6.2mm*P1.27mm*; Supplier: http://www.ti.com/lit/ds/symlink/opa376.pdf
part A pins: 1 (out), 2 - (in), 3 + (in)
part B pins: 5 + (in), 6 - (in), 7 (out)
part C pins: 4 V- (power), 8 V+ (power)

## OPA2376xxYZD
designator *  value OPA2376xxYZD
ki_keywords: dual opamp; ki_description: Dual Low-Noise, Low Quiescent Current, Precision Operational Amplifier e-trim Series, DSBGA-8; ki_fp_filters: Texas*DSBGA*0.9x1.9mm*0.5mm*; Footprint: Package_BGA:Texas_DSBGA-8_0.9x1.9mm_Layout2x4_P0.5mm; Supplier: http://www.ti.com/lit/ds/symlink/opa376.pdf
footprint Texas_DSBGA-8_0.9x1.9mm_Layout2x4_P0.5mm
part A pins: A1 (out), B1 - (in), C1 + (in)
part B pins: B2 (out), C2 - (in), D2 + (in)
part C pins: A2 V+ (power), D1 V- (power)

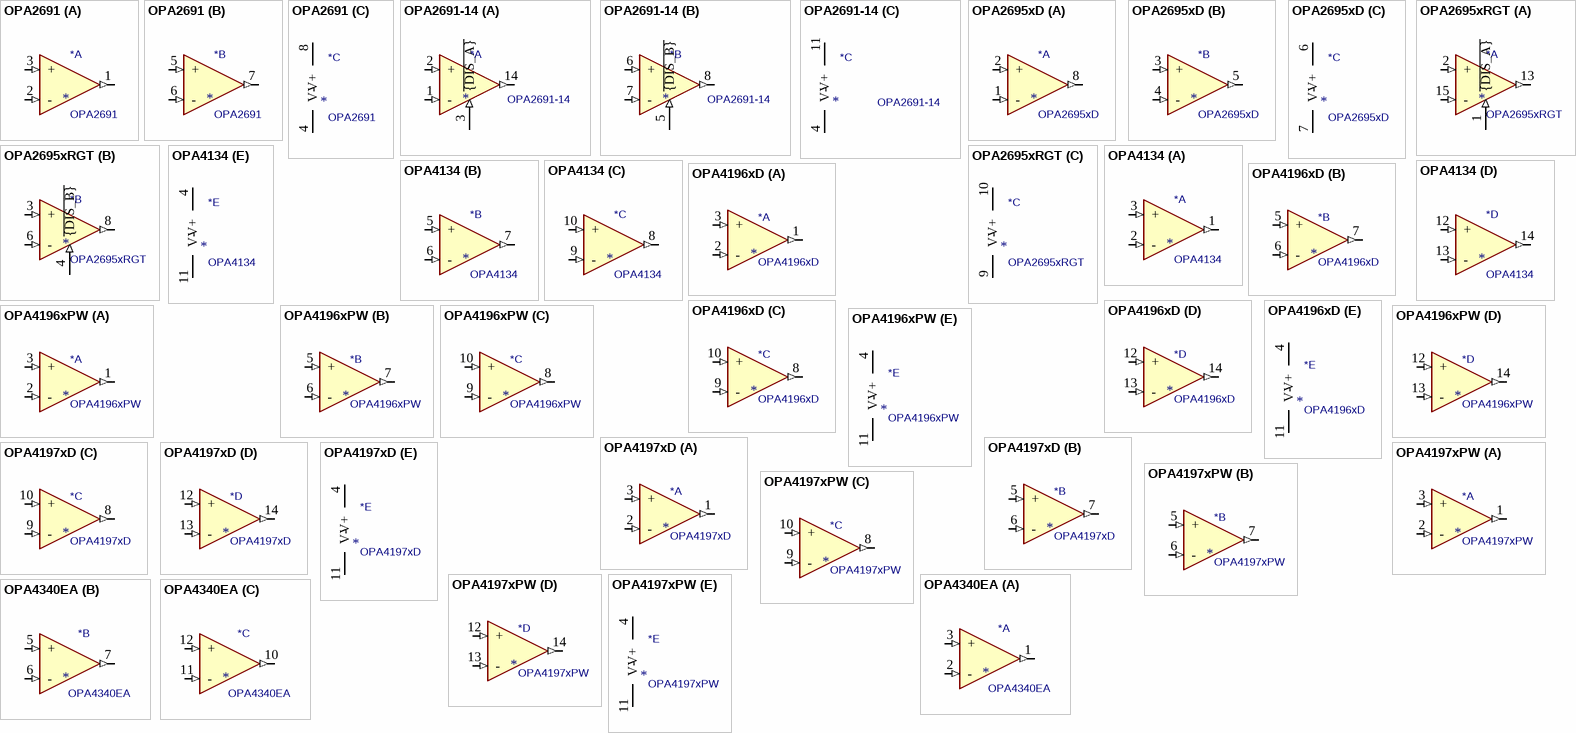
[diagram p14: symbols OPA2691 to OPA4340EA]

## OPA2691
designator *  value OPA2691
ki_keywords: dual current feedback opamp; ki_description: Dual Wideband, Current-Feedback Operational Amplifier, SOIC-8; ki_fp_filters: SOIC*3.9x4.9mm*P1.27mm* DIP*W7.62mm* TO*99* OnSemi*Micro8* TSSOP*3x3mm*P0.65mm* TSSOP*4.4x3mm*P0.65mm* MSOP*3x3mm*P0.65mm* SSOP*3.9x4.9mm*P0.635mm* LFCSP*2x2mm*P0.5mm* *SIP* SOIC*5.3x6.2mm*P1.27mm*; Supplier: http://www.ti.com/lit/ds/sbos224d/sbos224d.pdf
part A pins: 1 (out), 2 - (in), 3 + (in)
part B pins: 5 + (in), 6 - (in), 7 (out)
part C pins: 4 V- (power), 8 V+ (power)

## OPA2691-14
designator *  value OPA2691-14
ki_keywords: dual current feedback opamp; ki_description: Dual Wideband, Current-Feedback Operational Amplifier With Disable, SOIC-14; ki_fp_filters: SOIC*3.9x8.7mm*P1.27mm*; Footprint: Package_SO:SOIC-14_3.9x8.7mm_P1.27mm; Supplier: http://www.ti.com/lit/ds/sbos224d/sbos224d.pdf
footprint SOIC-14_3.9x8.7mm_P1.27mm
part A pins: 1 - (in), 2 + (in), 3 ~{{DIS_A}} (in), 9 NC (in) hidden, 10 NC (in) hidden, 14 (out)
part B pins: 5 ~{{DIS_B}} (in), 6 + (in), 7 - (in), 8 (out), 12 NC (in) hidden, 13 NC (in) hidden
part C pins: 4 V- (power), 11 V+ (power)

## OPA2695xD
designator *  value OPA2695xD
ki_keywords: dual opamp; ki_description: Dual, Ultra-Wideband, Current-Feedback Operational Amplifier with Disable, SOIC-8; ki_fp_filters: SOIC*3.9x4.9mm*P1.27mm*; Footprint: Package_SO:SOIC-8_3.9x4.9mm_P1.27mm; Supplier: http://www.ti.com/lit/ds/sbos354a/sbos354a.pdf
footprint SOIC-8_3.9x4.9mm_P1.27mm
part A pins: 1 - (in), 2 + (in), 8 (out)
part B pins: 3 + (in), 4 - (in), 5 (out)
part C pins: 6 V+ (power), 7 V- (power)

## OPA2695xRGT
designator *  value OPA2695xRGT
ki_keywords: dual opamp; ki_description: Dual, Ultra-Wideband, Current-Feedback Operational Amplifier with Disable, QFN-16; ki_fp_filters: VQFN*1EP*3x3mm*P0.5mm*; Footprint: Package_DFN_QFN:VQFN-16-1EP_3x3mm_P0.5mm_EP1.45x1.45mm_ThermalVias; Supplier: http://www.ti.com/lit/ds/sbos354a/sbos354a.pdf
footprint VQFN-16-1EP_3x3mm_P0.5mm_EP1.45x1.45mm_ThermalVias
part A pins: 1 ~{{DIS_A}} (in), 2 + (in), 5 NC (in) hidden, 13 (out), 14 NC (in) hidden, 15 - (in)
part B pins: 3 + (in), 4 ~{{DIS_B}} (in), 6 - (in), 7 NC (in) hidden, 8 (out), 16 NC (in) hidden
part C pins: 9 V- (power), 10 V+ (power), 11 V+ hidden, 12 V- hidden

## OPA4134
designator *  value OPA4134
ki_keywords: quad opamp; ki_description: Quad SoundPlus High Performance Audio Operational Amplifiers, SOIC-14; ki_fp_filters: SOIC*3.9x8.7mm*P1.27mm* DIP*W7.62mm* TSSOP*4.4x5mm*P0.65mm* SSOP*5.3x6.2mm*P0.65mm* MSOP*3x3mm*P0.5mm*; Supplier: http://www.ti.com/lit/ds/symlink/opa134.pdf
part A pins: 1 (out), 2 - (in), 3 + (in)
part B pins: 5 + (in), 6 - (in), 7 (out)
part C pins: 8 (out), 9 - (in), 10 + (in)
part D pins: 12 + (in), 13 - (in), 14 (out)
part E pins: 4 V+ (power), 11 V- (power)

## OPA4196xD
designator *  value OPA4196xD
ki_keywords: quad opamp rtor; ki_description: Quad, Low-Power, Low Offset Voltage, Rail-to-Rail Operational Amplifier, SOIC-14; ki_fp_filters: SOIC*3.9x8.7mm*P1.27mm*; Footprint: Package_SO:SOIC-14_3.9x8.7mm_P1.27mm; Supplier: http://www.ti.com/lit/ds/symlink/opa4196.pdf
footprint SOIC-14_3.9x8.7mm_P1.27mm
part A pins: 1 (out), 2 - (in), 3 + (in)
part B pins: 5 + (in), 6 - (in), 7 (out)
part C pins: 8 (out), 9 - (in), 10 + (in)
part D pins: 12 + (in), 13 - (in), 14 (out)
part E pins: 4 V+ (power), 11 V- (power)

## OPA4196xPW
designator *  value OPA4196xPW
ki_keywords: quad opamp rtor; ki_description: Quad, Low-Power, Low Offset Voltage, Rail-to-Rail Operational Amplifier, TSSOP-14; ki_fp_filters: TSSOP*4.4x5mm*P0.65mm*; Footprint: Package_SO:TSSOP-14_4.4x5mm_P0.65mm; Supplier: http://www.ti.com/lit/ds/symlink/opa4196.pdf
footprint TSSOP-14_4.4x5mm_P0.65mm
part A pins: 1 (out), 2 - (in), 3 + (in)
part B pins: 5 + (in), 6 - (in), 7 (out)
part C pins: 8 (out), 9 - (in), 10 + (in)
part D pins: 12 + (in), 13 - (in), 14 (out)
part E pins: 4 V+ (power), 11 V- (power)

## OPA4197xD
designator *  value OPA4197xD
ki_keywords: quad opamp rtor; ki_description: Quad 36V, Precision, Rail-to-Rail Input/Output, Low Offset Voltage, Operational Amplifier, SOIC-14; ki_fp_filters: SOIC*3.9x8.7mm*P1.27mm*; Footprint: Package_SO:SOIC-14_3.9x8.7mm_P1.27mm; Supplier: http://www.ti.com/lit/ds/symlink/opa4197.pdf
footprint SOIC-14_3.9x8.7mm_P1.27mm
part A pins: 1 (out), 2 - (in), 3 + (in)
part B pins: 5 + (in), 6 - (in), 7 (out)
part C pins: 8 (out), 9 - (in), 10 + (in)
part D pins: 12 + (in), 13 - (in), 14 (out)
part E pins: 4 V+ (power), 11 V- (power)

## OPA4197xPW
designator *  value OPA4197xPW
ki_keywords: quad opamp rtor; ki_description: Quad 36V, Precision, Rail-to-Rail Input/Output, Low Offset Voltage, Operational Amplifier, TSSOP-14; ki_fp_filters: TSSOP*4.4x5mm*P0.65mm*; Footprint: Package_SO:TSSOP-14_4.4x5mm_P0.65mm; Supplier: http://www.ti.com/lit/ds/symlink/opa4197.pdf
footprint TSSOP-14_4.4x5mm_P0.65mm
part A pins: 1 (out), 2 - (in), 3 + (in)
part B pins: 5 + (in), 6 - (in), 7 (out)
part C pins: 8 (out), 9 - (in), 10 + (in)
part D pins: 12 + (in), 13 - (in), 14 (out)
part E pins: 4 V+ (power), 11 V- (power)

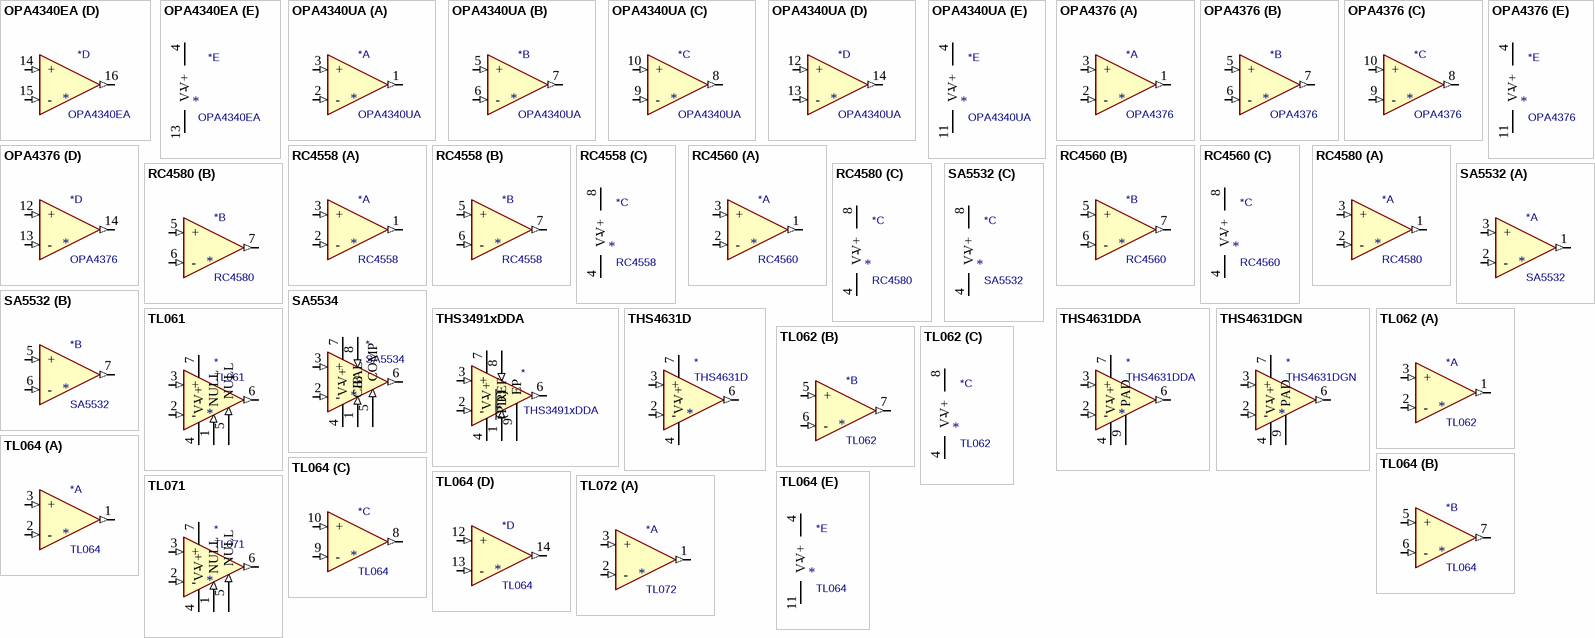
[diagram p15: symbols OPA4340EA to TL072]

## OPA4340EA
designator *  value OPA4340EA
ki_keywords: quad opamp; ki_description: Quad Single-Supply, Rail-to-Rail Operational Amplifier, MicroAmplifier Series, SSOP-16; ki_fp_filters: SSOP*3.9x4.9mm*P0.635mm* SOIC*3.9x9.9mm*P1.27mm* QSOP*3.9x4.9mm*P0.635mm*; Supplier: http://www.ti.com/lit/ds/symlink/opa340.pdf
part A pins: 1 (out), 2 - (in), 3 + (in), 8 NC (in) hidden, 9 NC (in) hidden
part B pins: 5 + (in), 6 - (in), 7 (out)
part C pins: 10 (out), 11 - (in), 12 + (in)
part D pins: 14 + (in), 15 - (in), 16 (out)
part E pins: 4 V+ (power), 13 V- (power)

## OPA4340UA
designator *  value OPA4340UA
ki_keywords: quad opamp; ki_description: Quad Single-Supply, Rail-to-Rail Operational Amplifier, MicroAmplifier Series, SOIC-14; ki_fp_filters: SOIC*3.9x8.7mm*P1.27mm* DIP*W7.62mm* TSSOP*4.4x5mm*P0.65mm* SSOP*5.3x6.2mm*P0.65mm* MSOP*3x3mm*P0.5mm*; Supplier: http://www.ti.com/lit/ds/symlink/opa340.pdf
part A pins: 1 (out), 2 - (in), 3 + (in)
part B pins: 5 + (in), 6 - (in), 7 (out)
part C pins: 8 (out), 9 - (in), 10 + (in)
part D pins: 12 + (in), 13 - (in), 14 (out)
part E pins: 4 V+ (power), 11 V- (power)

## OPA4376
designator *  value OPA4376
ki_keywords: quad opamp; ki_description: Quad Low-Noise, Low Quiescent Current, Precision Operational Amplifier e-trim Series, SC-70-5; ki_fp_filters: SOIC*3.9x8.7mm*P1.27mm* DIP*W7.62mm* TSSOP*4.4x5mm*P0.65mm* SSOP*5.3x6.2mm*P0.65mm* MSOP*3x3mm*P0.5mm*; Supplier: http://www.ti.com/lit/ds/symlink/opa376.pdf
part A pins: 1 (out), 2 - (in), 3 + (in)
part B pins: 5 + (in), 6 - (in), 7 (out)
part C pins: 8 (out), 9 - (in), 10 + (in)
part D pins: 12 + (in), 13 - (in), 14 (out)
part E pins: 4 V+ (power), 11 V- (power)

## RC4558
designator *  value RC4558
ki_keywords: dual opamp; ki_description: Dual General Purpose, Operational Amplifier, DIP-8/SOIC-8/SSOP-8; ki_fp_filters: SOIC*3.9x4.9mm*P1.27mm* DIP*W7.62mm* TO*99* OnSemi*Micro8* TSSOP*3x3mm*P0.65mm* TSSOP*4.4x3mm*P0.65mm* MSOP*3x3mm*P0.65mm* SSOP*3.9x4.9mm*P0.635mm* LFCSP*2x2mm*P0.5mm* *SIP* SOIC*5.3x6.2mm*P1.27mm*; Supplier: http://www.ti.com/lit/ds/symlink/rc4558.pdf
part A pins: 1 (out), 2 - (in), 3 + (in)
part B pins: 5 + (in), 6 - (in), 7 (out)
part C pins: 4 V- (power), 8 V+ (power)

## RC4560
designator *  value RC4560
ki_keywords: dual opamp; ki_description: Dual Audio Operational Amplifier, DIP-8/SOIC-8/SSOP-8; ki_fp_filters: SOIC*3.9x4.9mm*P1.27mm* DIP*W7.62mm* TO*99* OnSemi*Micro8* TSSOP*3x3mm*P0.65mm* TSSOP*4.4x3mm*P0.65mm* MSOP*3x3mm*P0.65mm* SSOP*3.9x4.9mm*P0.635mm* LFCSP*2x2mm*P0.5mm* *SIP* SOIC*5.3x6.2mm*P1.27mm*; Supplier: http://www.ti.com/lit/ds/symlink/rc4560.pdf
part A pins: 1 (out), 2 - (in), 3 + (in)
part B pins: 5 + (in), 6 - (in), 7 (out)
part C pins: 4 V- (power), 8 V+ (power)

## RC4580
designator *  value RC4580
ki_keywords: dual opamp; ki_description: Dual Audio Operational Amplifier, SOIC-8/SSOP-8; ki_fp_filters: SOIC*3.9x4.9mm*P1.27mm* DIP*W7.62mm* TO*99* OnSemi*Micro8* TSSOP*3x3mm*P0.65mm* TSSOP*4.4x3mm*P0.65mm* MSOP*3x3mm*P0.65mm* SSOP*3.9x4.9mm*P0.635mm* LFCSP*2x2mm*P0.5mm* *SIP* SOIC*5.3x6.2mm*P1.27mm*; Supplier: http://www.ti.com/lit/ds/symlink/rc4580.pdf
part A pins: 1 (out), 2 - (in), 3 + (in)
part B pins: 5 + (in), 6 - (in), 7 (out)
part C pins: 4 V- (power), 8 V+ (power)

## SA5532
designator *  value SA5532
ki_keywords: dual opamp; ki_description: Dual Low-Noise Operational Amplifiers, DIP-8/SOIC-8; ki_fp_filters: SOIC*3.9x4.9mm*P1.27mm* DIP*W7.62mm* TO*99* OnSemi*Micro8* TSSOP*3x3mm*P0.65mm* TSSOP*4.4x3mm*P0.65mm* MSOP*3x3mm*P0.65mm* SSOP*3.9x4.9mm*P0.635mm* LFCSP*2x2mm*P0.5mm* *SIP* SOIC*5.3x6.2mm*P1.27mm*; Supplier: http://www.ti.com/lit/ds/symlink/ne5532.pdf
part A pins: 1 (out), 2 - (in), 3 + (in)
part B pins: 5 + (in), 6 - (in), 7 (out)
part C pins: 4 V- (power), 8 V+ (power)

## SA5534
designator *  value SA5534
ki_keywords: single opamp; ki_description: Single Low-Noise Operational Amplifiers, DIP-8/SOIC-8; ki_fp_filters: DIP*W7.62mm* SOIC*3.9x4.9mm*P1.27mm* TO?5*; Supplier: http://www.ti.com/lit/ds/symlink/ne5534.pdf
pins: 1 BAL (in), 2 - (in), 3 + (in), 4 V- (power), 5 COMP (in), 6 (out), 7 V+ (power), 8 C/B (in)

## THS3491xDDA
designator *  value THS3491xDDA
ki_keywords: opamp single current feedback wideband; ki_description: 900-MHz, 500-mA High-Power Output Current Feedback Operational Amplifier, SOIC-8; ki_fp_filters: Texas*R*PDSO*G8*EP*; Footprint: Package_SO:Texas_R-PDSO-G8_EP2.95x4.9mm_Mask2.4x3.1mm; Supplier: http://www.ti.com/lit/ds/symlink/ths3491.pdf
footprint Texas_R-PDSO-G8_EP2.95x4.9mm_Mask2.4x3.1mm
pins: 1 REF (in), 2 - (in), 3 + (in), 4 V- (power), 5 NC (in) hidden, 6 (out), 7 V+ (power), 8 ~{{PD}} (in), 9 EP

## THS4631D
designator *  value THS4631D
ki_keywords: single opamp; ki_description: Single High-voltage, High Slew Rate, Wideband, FET-input Operational Amplifier, SOIC-8; ki_fp_filters: SOIC*3.9x4.9mm*P1.27mm*; Footprint: Package_SO:SOIC-8_3.9x4.9mm_P1.27mm; Supplier: www.ti.com/lit/ds/symlink/ths4631.pdf
footprint SOIC-8_3.9x4.9mm_P1.27mm
pins: 1 NC (in) hidden, 2 - (in), 3 + (in), 4 V- (power), 5 NC (in) hidden, 6 (out), 7 V+ (power), 8 NC (in) hidden

## THS4631DDA
designator *  value THS4631DDA
ki_keywords: single opamp; ki_description: Single High-voltage, High Slew Rate, Wideband, FET-input Operational Amplifier, SOIC-8; ki_fp_filters: SOIC*1EP*3.9x4.9mm*P1.27mm* MSOP*1EP*3x3mm*P0.65mm*; Supplier: www.ti.com/lit/ds/symlink/ths4631.pdf
pins: 1 NC (in) hidden, 2 - (in), 3 + (in), 4 V- (power), 5 NC (in) hidden, 6 (out), 7 V+ (power), 8 NC (in) hidden, 9 PAD

## THS4631DGN
designator *  value THS4631DGN
ki_keywords: single opamp; ki_description: Single High-voltage, High Slew Rate, Wideband, FET-input Operational Amplifier, MSOP-8; ki_fp_filters: SOIC*1EP*3.9x4.9mm*P1.27mm* MSOP*1EP*3x3mm*P0.65mm*; Supplier: www.ti.com/lit/ds/symlink/ths4631.pdf
pins: 1 NC (in) hidden, 2 - (in), 3 + (in), 4 V- (power), 5 NC (in) hidden, 6 (out), 7 V+ (power), 8 NC (in) hidden, 9 PAD

## TL061
designator *  value TL061
ki_keywords: single opamp; ki_description: Single Low-Power JFET-Input Operational Amplifiers, DIP-8/SOIC-8; ki_fp_filters: SOIC*3.9x4.9mm*P1.27mm* DIP*W7.62mm* TSSOP*3x3mm*P0.65mm*; Supplier: http://www.ti.com/lit/ds/symlink/tl061.pdf
pins: 1 NULL (in), 2 - (in), 3 + (in), 4 V- (power), 5 NULL (in), 6 (out), 7 V+ (power), 8 NC (in) hidden

## TL062
designator *  value TL062
ki_keywords: dual opamp; ki_description: Dual Low-Power JFET-Input Operational Amplifiers, DIP-8/SOIC-8/SSOP-8; ki_fp_filters: SOIC*3.9x4.9mm*P1.27mm* DIP*W7.62mm* TO*99* OnSemi*Micro8* TSSOP*3x3mm*P0.65mm* TSSOP*4.4x3mm*P0.65mm* MSOP*3x3mm*P0.65mm* SSOP*3.9x4.9mm*P0.635mm* LFCSP*2x2mm*P0.5mm* *SIP* SOIC*5.3x6.2mm*P1.27mm*; Supplier: http://www.ti.com/lit/ds/symlink/tl061.pdf
part A pins: 1 (out), 2 - (in), 3 + (in)
part B pins: 5 + (in), 6 - (in), 7 (out)
part C pins: 4 V- (power), 8 V+ (power)

## TL064
designator *  value TL064
ki_keywords: quad opamp; ki_description: Quad Low-Power JFET-Input Operational Amplifiers, DIP-14/SOIC-14/SSOP-14; ki_fp_filters: SOIC*3.9x8.7mm*P1.27mm* DIP*W7.62mm* TSSOP*4.4x5mm*P0.65mm* SSOP*5.3x6.2mm*P0.65mm* MSOP*3x3mm*P0.5mm*; Supplier: http://www.ti.com/lit/ds/symlink/tl061.pdf
part A pins: 1 (out), 2 - (in), 3 + (in)
part B pins: 5 + (in), 6 - (in), 7 (out)
part C pins: 8 (out), 9 - (in), 10 + (in)
part D pins: 12 + (in), 13 - (in), 14 (out)
part E pins: 4 V+ (power), 11 V- (power)

## TL071
designator *  value TL071
ki_keywords: singel opamp; ki_description: Single Low-Noise JFET-Input Operational Amplifiers, DIP-8/SOIC-8; ki_fp_filters: SOIC*3.9x4.9mm*P1.27mm* DIP*W7.62mm* TSSOP*3x3mm*P0.65mm*; Supplier: http://www.ti.com/lit/ds/symlink/tl071.pdf
pins: 1 NULL (in), 2 - (in), 3 + (in), 4 V- (power), 5 NULL (in), 6 (out), 7 V+ (power), 8 NC (in) hidden

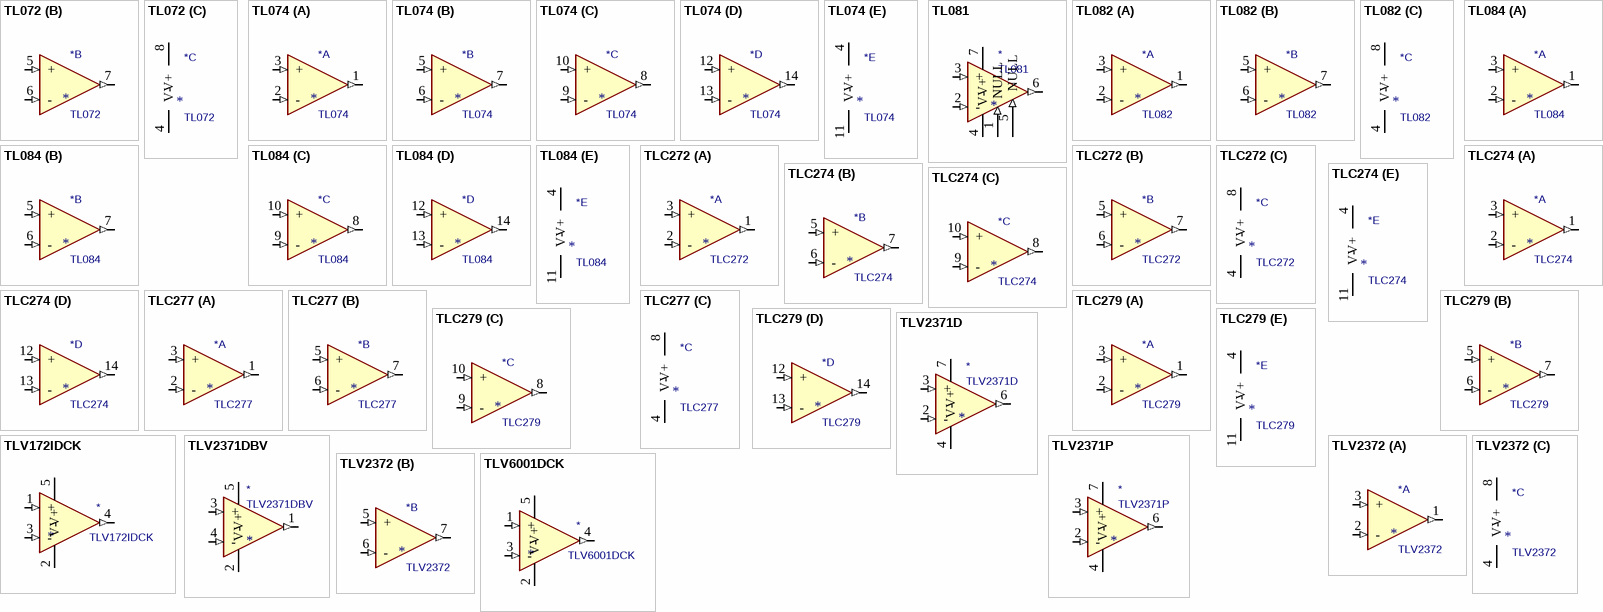
[diagram p16: symbols TL072 to TLV6001DCK]

## TL072
designator *  value TL072
ki_keywords: dual opamp; ki_description: Dual Low-Noise JFET-Input Operational Amplifiers, DIP-8/SOIC-8; ki_fp_filters: SOIC*3.9x4.9mm*P1.27mm* DIP*W7.62mm* TO*99* OnSemi*Micro8* TSSOP*3x3mm*P0.65mm* TSSOP*4.4x3mm*P0.65mm* MSOP*3x3mm*P0.65mm* SSOP*3.9x4.9mm*P0.635mm* LFCSP*2x2mm*P0.5mm* *SIP* SOIC*5.3x6.2mm*P1.27mm*; Supplier: http://www.ti.com/lit/ds/symlink/tl071.pdf
part A pins: 1 (out), 2 - (in), 3 + (in)
part B pins: 5 + (in), 6 - (in), 7 (out)
part C pins: 4 V- (power), 8 V+ (power)

## TL074
designator *  value TL074
ki_keywords: quad opamp; ki_description: Quad Low-Noise JFET-Input Operational Amplifiers, DIP-14/SOIC-14; ki_fp_filters: SOIC*3.9x8.7mm*P1.27mm* DIP*W7.62mm* TSSOP*4.4x5mm*P0.65mm* SSOP*5.3x6.2mm*P0.65mm* MSOP*3x3mm*P0.5mm*; Supplier: http://www.ti.com/lit/ds/symlink/tl071.pdf
part A pins: 1 (out), 2 - (in), 3 + (in)
part B pins: 5 + (in), 6 - (in), 7 (out)
part C pins: 8 (out), 9 - (in), 10 + (in)
part D pins: 12 + (in), 13 - (in), 14 (out)
part E pins: 4 V+ (power), 11 V- (power)

## TL081
designator *  value TL081
ki_keywords: single opamp; ki_description: Single JFET-Input Operational Amplifiers, DIP-8/SOIC-8; ki_fp_filters: SOIC*3.9x4.9mm*P1.27mm* DIP*W7.62mm* TSSOP*3x3mm*P0.65mm*; Supplier: http://www.ti.com/lit/ds/symlink/tl081.pdf
pins: 1 NULL (in), 2 - (in), 3 + (in), 4 V- (power), 5 NULL (in), 6 (out), 7 V+ (power), 8 NC (in) hidden

## TL082
designator *  value TL082
ki_keywords: dual opamp; ki_description: Dual JFET-Input Operational Amplifiers, DIP-8/SOIC-8/SSOP-8; ki_fp_filters: SOIC*3.9x4.9mm*P1.27mm* DIP*W7.62mm* TO*99* OnSemi*Micro8* TSSOP*3x3mm*P0.65mm* TSSOP*4.4x3mm*P0.65mm* MSOP*3x3mm*P0.65mm* SSOP*3.9x4.9mm*P0.635mm* LFCSP*2x2mm*P0.5mm* *SIP* SOIC*5.3x6.2mm*P1.27mm*; Supplier: http://www.ti.com/lit/ds/symlink/tl081.pdf
part A pins: 1 (out), 2 - (in), 3 + (in)
part B pins: 5 + (in), 6 - (in), 7 (out)
part C pins: 4 V- (power), 8 V+ (power)

## TL084
designator *  value TL084
ki_keywords: quad opamp; ki_description: Quad JFET-Input Operational Amplifiers, DIP-14/SOIC-14/SSOP-14; ki_fp_filters: SOIC*3.9x8.7mm*P1.27mm* DIP*W7.62mm* TSSOP*4.4x5mm*P0.65mm* SSOP*5.3x6.2mm*P0.65mm* MSOP*3x3mm*P0.5mm*; Supplier: http://www.ti.com/lit/ds/symlink/tl081.pdf
part A pins: 1 (out), 2 - (in), 3 + (in)
part B pins: 5 + (in), 6 - (in), 7 (out)
part C pins: 8 (out), 9 - (in), 10 + (in)
part D pins: 12 + (in), 13 - (in), 14 (out)
part E pins: 4 V+ (power), 11 V- (power)

## TLC272
designator *  value TLC272
ki_keywords: dual opamp; ki_description: Dual LinCMOS Precision Dual Operational Amplifiers, DIP-8/SOIC-8/SSOP-8; ki_fp_filters: SOIC*3.9x4.9mm*P1.27mm* DIP*W7.62mm* TO*99* OnSemi*Micro8* TSSOP*3x3mm*P0.65mm* TSSOP*4.4x3mm*P0.65mm* MSOP*3x3mm*P0.65mm* SSOP*3.9x4.9mm*P0.635mm* LFCSP*2x2mm*P0.5mm* *SIP* SOIC*5.3x6.2mm*P1.27mm*; Supplier: http://www.ti.com/lit/ds/symlink/tlc272.pdf
part A pins: 1 (out), 2 - (in), 3 + (in)
part B pins: 5 + (in), 6 - (in), 7 (out)
part C pins: 4 V- (power), 8 V+ (power)

## TLC274
designator *  value TLC274
ki_keywords: quad opamp; ki_description: Quad LinCMOS Precision Quad Operational Amplifiers, DIP-14/SOIC-14/SSOP-14; ki_fp_filters: SOIC*3.9x8.7mm*P1.27mm* DIP*W7.62mm* TSSOP*4.4x5mm*P0.65mm* SSOP*5.3x6.2mm*P0.65mm* MSOP*3x3mm*P0.5mm*; Supplier: http://www.ti.com/lit/ds/symlink/tlc274.pdf
part A pins: 1 (out), 2 - (in), 3 + (in)
part B pins: 5 + (in), 6 - (in), 7 (out)
part C pins: 8 (out), 9 - (in), 10 + (in)
part D pins: 12 + (in), 13 - (in), 14 (out)
part E pins: 4 V+ (power), 11 V- (power)

## TLC277
designator *  value TLC277
ki_keywords: dual opamp; ki_description: Dual LinCMOS Precision Dual Operational Amplifiers, DIP-8/SOIC-8/SSOP-8; ki_fp_filters: SOIC*3.9x4.9mm*P1.27mm* DIP*W7.62mm* TO*99* OnSemi*Micro8* TSSOP*3x3mm*P0.65mm* TSSOP*4.4x3mm*P0.65mm* MSOP*3x3mm*P0.65mm* SSOP*3.9x4.9mm*P0.635mm* LFCSP*2x2mm*P0.5mm* *SIP* SOIC*5.3x6.2mm*P1.27mm*; Supplier: http://www.ti.com/lit/ds/symlink/tlc272.pdf
part A pins: 1 (out), 2 - (in), 3 + (in)
part B pins: 5 + (in), 6 - (in), 7 (out)
part C pins: 4 V- (power), 8 V+ (power)

## TLC279
designator *  value TLC279
ki_keywords: quad opamp; ki_description: Quad LinCMOS Precision Quad Operational Amplifiers, DIP-14/SOIC-14/SSOP-14; ki_fp_filters: SOIC*3.9x8.7mm*P1.27mm* DIP*W7.62mm* TSSOP*4.4x5mm*P0.65mm* SSOP*5.3x6.2mm*P0.65mm* MSOP*3x3mm*P0.5mm*; Supplier: http://www.ti.com/lit/ds/symlink/tlc274.pdf
part A pins: 1 (out), 2 - (in), 3 + (in)
part B pins: 5 + (in), 6 - (in), 7 (out)
part C pins: 8 (out), 9 - (in), 10 + (in)
part D pins: 12 + (in), 13 - (in), 14 (out)
part E pins: 4 V+ (power), 11 V- (power)

## TLV172IDCK
designator *  value TLV172IDCK
ki_keywords: op amp operational amplifier; ki_description: Low-power Operational Amplifier, SOT-353; ki_fp_filters: SOT*353*SC*70*; Footprint: Package_TO_SOT_SMD:SOT-353_SC-70-5; Supplier: http://www.ti.com/lit/ds/symlink/tlv172.pdf
footprint SOT-353_SC-70-5
pins: 1 + (in), 2 V- (power), 3 - (in), 4 (out), 5 V+ (power)

## TLV2371D
designator *  value TLV2371D
ki_keywords: single opamp; ki_description: Rail-to-Rail Input/Output Operational Amplifier, SOIC-8; ki_fp_filters: SOIC*3.9x4.9mm*P1.27mm*; Footprint: Package_SO:SOIC-8_3.9x4.9mm_P1.27mm; Supplier: http://www.ti.com/lit/ds/symlink/tlv2375.pdf
footprint SOIC-8_3.9x4.9mm_P1.27mm
pins: 1 NC (in) hidden, 2 - (in), 3 + (in), 4 V- (power), 5 NC (in) hidden, 6 (out), 7 V+ (power), 8 NC (in) hidden

## TLV2371DBV
designator *  value TLV2371DBV
ki_keywords: single opamp; ki_description: Rail-to-Rail Input/Output Operational Amplifier, SOT-23-5; ki_fp_filters: SOT?23*; Footprint: Package_TO_SOT_SMD:SOT-23-5; Supplier: http://www.ti.com/lit/ds/symlink/tlv2375.pdf
footprint SOT-23-5
pins: 1 (out), 2 V- (power), 3 + (in), 4 - (in), 5 V+ (power)

## TLV2371P
designator *  value TLV2371P
ki_keywords: single opamp; ki_description: Rail-to-Rail Input/Output Operational Amplifier, PDIP-8; ki_fp_filters: DIP*W7.62mm*; Footprint: Package_DIP:DIP-8_W7.62mm; Supplier: http://www.ti.com/lit/ds/symlink/tlv2375.pdf
footprint DIP-8_W7.62mm
pins: 1 NC (in) hidden, 2 - (in), 3 + (in), 4 V- (power), 5 NC (in) hidden, 6 (out), 7 V+ (power), 8 NC (in) hidden

## TLV2372
designator *  value TLV2372
ki_keywords: dual opamp; ki_description: Dual Rail-to-Rail Input/Output Operational Amplifier, DIP-8/SOIC-8/VSSOP-8; ki_fp_filters: SOIC*3.9x4.9mm*P1.27mm* DIP*W7.62mm* TO*99* OnSemi*Micro8* TSSOP*3x3mm*P0.65mm* TSSOP*4.4x3mm*P0.65mm* MSOP*3x3mm*P0.65mm* SSOP*3.9x4.9mm*P0.635mm* LFCSP*2x2mm*P0.5mm* *SIP* SOIC*5.3x6.2mm*P1.27mm*; Supplier: http://www.ti.com/lit/ds/symlink/tlv2375.pdf
part A pins: 1 (out), 2 - (in), 3 + (in)
part B pins: 5 + (in), 6 - (in), 7 (out)
part C pins: 4 V- (power), 8 V+ (power)

## TLV6001DCK
designator *  value TLV6001DCK
ki_keywords: op amp operational amplifier; ki_description: Low-power, Rail-to-rail, 1MHz Operational Amplifier, SOT-353; ki_fp_filters: SOT*353*SC*70*; Footprint: Package_TO_SOT_SMD:SOT-353_SC-70-5; Supplier: http://www.ti.com/lit/ds/symlink/tlv6001.pdf
footprint SOT-353_SC-70-5
pins: 1 + (in), 2 V- (power), 3 - (in), 4 (out), 5 V+ (power)

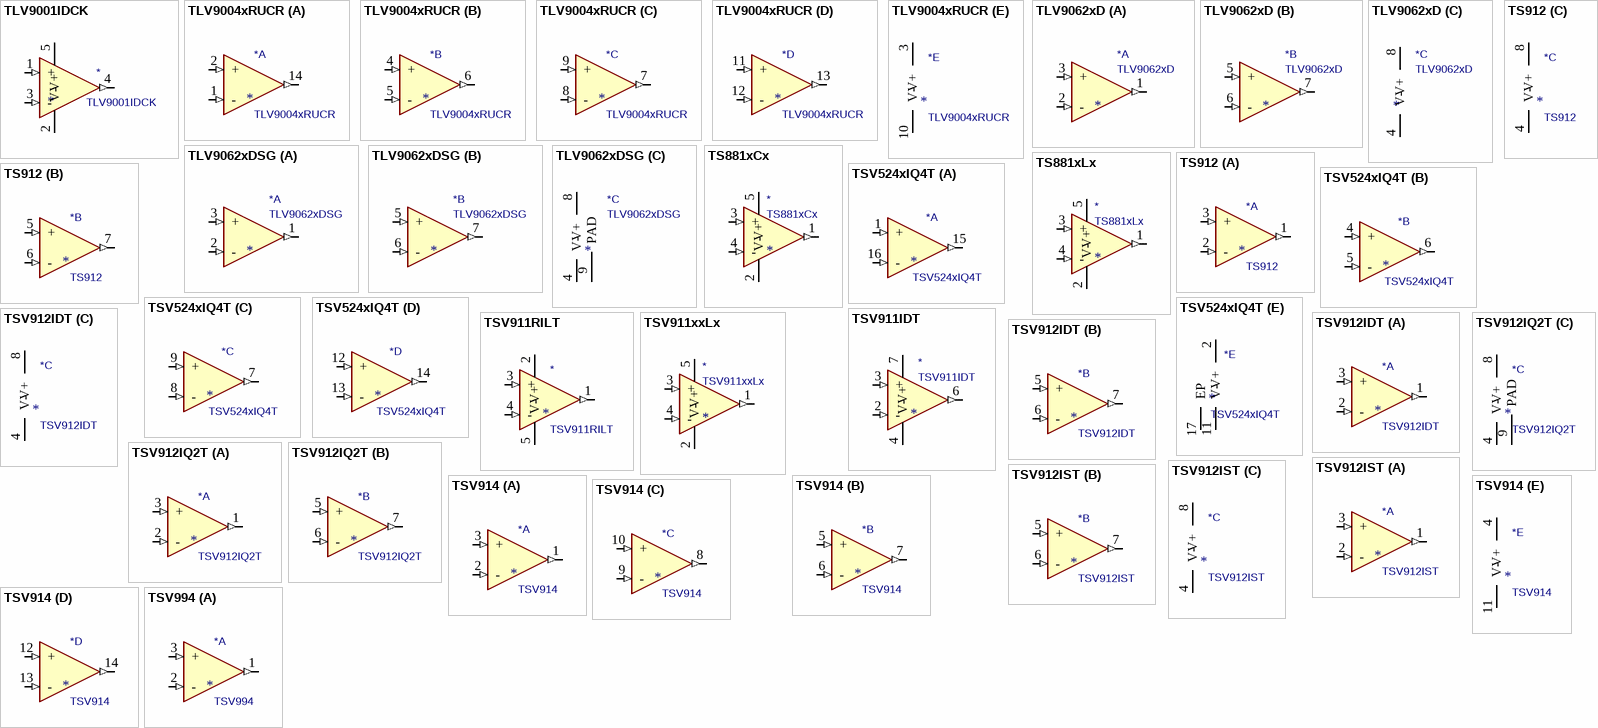
[diagram p17: symbols TLV9001IDCK to TSV994]

## TLV9001IDCK
designator *  value TLV9001IDCK
ki_keywords: op amp operational amplifier; ki_description: Low-power, Rail-to-Rail, 1MHz Operational Amplifier, SOT-353; ki_fp_filters: SOT*353*SC*70*; Footprint: Package_TO_SOT_SMD:SOT-353_SC-70-5; Supplier: https://www.ti.com/lit/ds/symlink/tlv9001.pdf
footprint SOT-353_SC-70-5
pins: 1 + (in), 2 V- (power), 3 - (in), 4 (out), 5 V+ (power)

## TLV9004xRUCR
designator *  value TLV9004xRUCR
ki_keywords: quad opamp; ki_description: Low-Power, Quad-Operational Amplifiers, Texas S-PX2QFN-14; ki_fp_filters: Texas*S*PX2QFN*; Footprint: Package_DFN_QFN:Texas_S-PX2QFN-14; Supplier: http://www.ti.com/lit/ds/symlink/tlv9004.pdf
footprint Texas_S-PX2QFN-14
part A pins: 1 - (in), 2 + (in), 14 (out)
part B pins: 4 + (in), 5 - (in), 6 (out)
part C pins: 7 (out), 8 - (in), 9 + (in)
part D pins: 11 + (in), 12 - (in), 13 (out)
part E pins: 3 V+ (power), 10 V- (power)

## TLV9062xD
designator *  value TLV9062xD
ki_keywords: dual op-amp low power; ki_description: Dual operational amplifier, 300 uV Offset, SOIC-8; ki_fp_filters: SOIC*3.9x4.9mm*P1.27mm*; Footprint: Package_SO:SOIC-8_3.9x4.9mm_P1.27mm; Supplier: https://www.ti.com/lit/ds/symlink/tlv9062.pdf
footprint SOIC-8_3.9x4.9mm_P1.27mm
part A pins: 1 (out), 2 - (in), 3 + (in)
part B pins: 5 + (in), 6 - (in), 7 (out)
part C pins: 4 V- (power), 8 V+ (power)